# Altium schematic symbol library FQDMDSchematicLibrary.SchLib: 16 symbols (part 1 of 2)
Pins are listed as number, name and electrical type; pins without a type are passive.

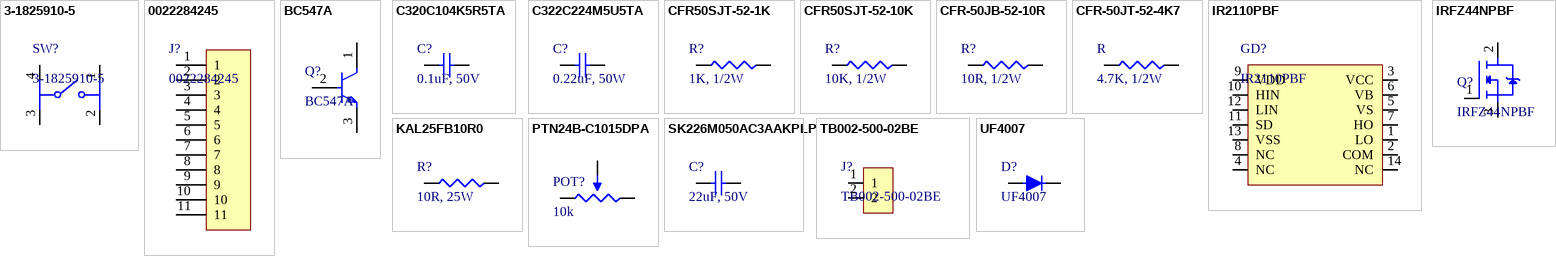
[diagram p0: symbols 3-1825910-5 to UF4007]

## 3-1825910-5
designator SW?
SWITCH TACTILE SPST-NO 0.05A 24V; Manufacturer: TE Connectivity; Manufacturer Lifecycle Status: ACTIVE; Actuator Length: 4.9mm; Actuator Material: Nylon, Polyamide; Contact Current Rating: 50mA; Contact Resistance: 100mΩ; Electrical Life: 100kcycles; Illumination Type: Illuminated, Non-Illuminated; Number of Positions: 1; Operating Force: 1.568N; Switch Function: Off-Mom; Switch Travel: 250µm; Throw Configuration: SPST; Supplier: DigiKey; Supplier Part Number: 450-1644-ND; Manufacturer Part Number: 3-1825910-5; RoHS: Compliant; Category: Pushbutton Switches; Stock: 31248; Pricing: 1=0.16, 10=0.144, 25=0.1348, 100=0.1213, 250=0.1126, 750=0.10273, 1500=0.09697, 3000=0.09163, 5250=0.08765 (USD); China RoHS: Compliant; Color: Black; Contact Material: Silver; Contact Plating: Silver; Current Rating: 50mA; Export Control Classification Number (ECCN) Code: EAR99; ELV: Compliant; Height: 3.61mm; Housing Material: Nylon; Harmonized Tariff Schedule (HTS) Code: 8536.50.90.40; Introduction Date: 2008-01-30; Lead Free: Lead Free; Length: 5.99mm; Lifecycle Status: Production; Max Current Rating: 50mA; Max Operating Temperature: 85°C; Max Voltage Rating (DC): 24V; Mechanical Life: 100kcycles; Min Operating Temperature: -35°C; Mounting Technology: PCB, Through Hole; Orientation: Straight; Packaging: Bulk; Radiation Hardening: No; REACH SVHC: Yes; Schedule B: 8536509065; Termination: Solder; Type: Switch; Voltage Rating (DC): 24V; ComponentLink1URL: https://sigma.octopart.com:443/101748000/technical_drawing/TE-Connectivity-3-1825910-5.pdf?src-supplier=Sager+Electronics; ComponentLink1Description: https://sigma.octopart.com:443/101748000/technical_drawing/TE-Connectivity-3-1825910-5.pdf?src-supplier=Sager+Electronics; ComponentLink2URL: https://datasheet.octopart.com:443/3-1825910-5-TE-Connectivity-datasheet-10294628.pdf?src-supplier=TE+Connectivity; ComponentLink2Description: https://datasheet.octopart.com:443/3-1825910-5-TE-Connectivity-datasheet-10294628.pdf?src-supplier=TE+Connectivity; ComponentLink3URL: https://datasheet.octopart.com:443/3-1825910-5-TE-Connectivity-datasheet-58177301.pdf?src-supplier=TE+Connectivity; ComponentLink3Description: https://datasheet.octopart.com:443/3-1825910-5-TE-Connectivity-datasheet-58177301.pdf?src-supplier=TE+Connectivity; ComponentLink4URL: https://sigma.octopart.com:443/12291753/technical_drawing/TE-Connectivity-3-1825910-5.pdf?src-supplier=Burklin+Elektronik; ComponentLink4Description: https://sigma.octopart.com:443/12291753/technical_drawing/TE-Connectivity-3-1825910-5.pdf?src-supplier=Burklin+Elektronik; ComponentLink5URL: https://datasheet.octopart.com:443/3-1825910-5-TE-Connectivity-datasheet-33009270.pdf?src-supplier=Newark; ComponentLink5Description: https://datasheet.octopart.com:443/3-1825910-5-TE-Connectivity-datasheet-33009270.pdf?src-supplier=Newark; ComponentLink6URL: https://datasheet.octopart.com:443/3-1825910-5-Tyco-Electronics-datasheet-10028384.pdf?src-supplier=Newark; ComponentLink6Description: https://datasheet.octopart.com:443/3-1825910-5-Tyco-Electronics-datasheet-10028384.pdf?src-supplier=Newark; ComponentLink7URL: https://datasheet.octopart.com:443/FSM18JH-Alcoswitch-datasheet-160371.pdf?src-supplier=Master+Electronics; ComponentLink7Description: https://datasheet.octopart.com:443/FSM18JH-Alcoswitch-datasheet-160371.pdf?src-supplier=Master+Electronics; ComponentLink8URL: https://datasheet.octopart.com:443/3-1825910-5-TE-Connectivity---AMP-datasheet-189108451.pdf?src-supplier=Master+Electronics; ComponentLink8Description: https://datasheet.octopart.com:443/3-1825910-5-TE-Connectivity---AMP-datasheet-189108451.pdf?src-supplier=Master+Electronics; ComponentLink9URL: https://datasheet.octopart.com:443/3-1825910-5-TE-Connectivity-datasheet-145421083.pdf?src-supplier=RS+(Formerly+Allied+Electronics); ComponentLink9Description: https://datasheet.octopart.com:443/3-1825910-5-TE-Connectivity-datasheet-145421083.pdf?src-supplier=RS+(Formerly+Allied+Electronics); ComponentLink10URL: https://datasheet.octopart.com:443/FSM18JH-TE-Connectivity-datasheet-512274.pdf?src-supplier=RS+(Formerly+Allied+Electronics); ComponentLink10Description: https://datasheet.octopart.com:443/FSM18JH-TE-Connectivity-datasheet-512274.pdf?src-supplier=RS+(Formerly+Allied+Electronics); ComponentLink11URL: https://datasheet.octopart.com:443/3-1825910-5-TE-Connectivity-datasheet-165583917.pdf?src-supplier=TME; ComponentLink11Description: https://datasheet.octopart.com:443/3-1825910-5-TE-Connectivity-datasheet-165583917.pdf?src-supplier=TME; ComponentLink12URL: https://datasheet.octopart.com:443/3-1825910-5-TE-Connectivity---AMP-datasheet-27860381.pdf?src-supplier=Electro+Sonic; ComponentLink12Description: https://datasheet.octopart.com:443/3-1825910-5-TE-Connectivity---AMP-datasheet-27860381.pdf?src-supplier=Electro+Sonic; ComponentLink13URL: https://datasheet.octopart.com:443/3-1825910-5-Tyco-Electronics-datasheet-11788987.pdf?src-supplier=Arrow+Electronics; ComponentLink13Description: https://datasheet.octopart.com:443/3-1825910-5-Tyco-Electronics-datasheet-11788987.pdf?src-supplier=Arrow+Electronics; ComponentLink14URL: http://sigma.octopart.com:80/14574724/rohs_statement/TE-Connectivity-3-1825910-5.pdf?src-supplier=Compliance+Statements; ComponentLink14Description: http://sigma.octopart.com:80/14574724/rohs_statement/TE-Connectivity-3-1825910-5.pdf?src-supplier=Compliance+Statements
footprint Pushbutton
pins: 1, 2, 3, 4

## 0022284245
designator J?
CONN HEADER VERT 24POS 2.54MM; Manufacturer: Molex; Manufacturer Lifecycle Status: ACTIVE; Contact Resistance: 20mΩ; Current Rating: 4A; Gender: Male; Insulation Resistance: 50GΩ; Number of Circuits: 24; Plating: Tin; Plating Thickness: 381nm; Ratings: CSA; Supplier: DigiKey; Supplier Part Number: 900-0022284245-ND; Manufacturer Part Number: 22-28-4245; RoHS: Compliant; Category: Headers and Wire Housings; Stock: 623; Pricing: 1=3.81, 10=3.237, 100=2.7512, 500=2.45582, 1000=2.33866 (USD); China RoHS: Compliant; Color: Black; Contact Material: Brass; Contact Plating: Gold; Country of Origin: US; Export Control Classification Number (ECCN) Code: EAR99; Housing Color: Black; Harmonized Tariff Schedule (HTS) Code: 8536.69.40.40; Introduction Date: 1994-12-01; Lead Free: Lead Free; Lifecycle Status: Production; Max Operating Temperature: 75°C; Min Operating Temperature: -40°C; Mounting Technology: Through Hole; Number of Contacts: 24; Pins: 24; Number of Positions: 24; Number of Rows: 1; Orientation: Vertical; Packaging: Bulk; Pitch: 2.54mm; REACH SVHC: Yes; Schedule B: 8536694040, 8536694040|8536694040|8536694040|8536694040|8536694040; Terminal Pitch: 2.54mm; Termination: Solder; ComponentLink1URL: https://datasheet.octopart.com:443/22-28-4245-Molex-datasheet-166051265.pdf?src-supplier=IHS; ComponentLink1Description: https://datasheet.octopart.com:443/22-28-4245-Molex-datasheet-166051265.pdf?src-supplier=IHS; ComponentLink2URL: https://datasheet.octopart.com:443/022284245-Molex-datasheet-8337137.pdf?src-supplier=Arrow+Electronics; ComponentLink2Description: https://datasheet.octopart.com:443/022284245-Molex-datasheet-8337137.pdf?src-supplier=Arrow+Electronics; ComponentLink3URL: https://datasheet.octopart.com:443/22-28-4245-Molex-datasheet-16300812.pdf?src-supplier=Molex; ComponentLink3Description: https://datasheet.octopart.com:443/22-28-4245-Molex-datasheet-16300812.pdf?src-supplier=Molex; ComponentLink4URL: https://sigma.octopart.com:443/16300370/technical_drawing/Molex-22-28-4245.pdf?src-supplier=Molex; ComponentLink4Description: https://sigma.octopart.com:443/16300370/technical_drawing/Molex-22-28-4245.pdf?src-supplier=Molex; ComponentLink5URL: https://datasheet.octopart.com:443/22-28-4245-Molex-datasheet-4210.pdf?src-supplier=DigiKey; ComponentLink5Description: https://datasheet.octopart.com:443/22-28-4245-Molex-datasheet-4210.pdf?src-supplier=DigiKey; ComponentLink6URL: http://sigma.octopart.com:80/16300813/rohs_statement/Molex-22-28-4245.pdf?src-supplier=Compliance+Statements; ComponentLink6Description: http://sigma.octopart.com:80/16300813/rohs_statement/Molex-22-28-4245.pdf?src-supplier=Compliance+Statements; ComponentLink7URL: http://sigma.octopart.com:80/reach_statement/Molex-company-74.pdf?src-supplier=Compliance+Statements; ComponentLink7Description: http://sigma.octopart.com:80/reach_statement/Molex-company-74.pdf?src-supplier=Compliance+Statements; ComponentLink8URL: http://sigma.octopart.com:80/rohs_statement/Molex-company-73.pdf?src-supplier=Compliance+Statements; ComponentLink8Description: http://sigma.octopart.com:80/rohs_statement/Molex-company-73.pdf?src-supplier=Compliance+Statements; ComponentLink9URL: http://sigma.octopart.com:80/conflict_mineral_statement/Molex-company-72.pdf?src-supplier=Compliance+Statements; ComponentLink9Description: http://sigma.octopart.com:80/conflict_mineral_statement/Molex-company-72.pdf?src-supplier=Compliance+Statements
footprint Conneting_Jumpers
pins: 1, 2, 3, 4, 5, 6, 7, 8, 9, 10, 11

## BC547A
designator Q?
TRANS NPN 45V 0.1A TO-92; Manufacturer: Diotec; Manufacturer Lifecycle Status: ACTIVE; Collector Emitter Saturation Voltage: 600mV; hFE Min: 110; Max Collector Current: 100mA; Max Power Dissipation: 500mW; Number of Channels: 1; Transition Frequency: 300MHz; Supplier: DigiKey; Supplier Part Number: 4878-BC547ATB-ND; Manufacturer Part Number: BC547A; RoHS: Compliant; Category: BJTs; Stock: 3793; Pricing: 4000=0.0267, 8000=0.02375, 12000=0.02224, 20000=0.02054, 28000=0.01954, 40000=0.01856 (USD); Case/Package: TO-92; Collector Emitter Voltage (VCEO): 45V; Country of Origin: Mainland China; Export Control Classification Number (ECCN) Code: EAR99; Harmonized Tariff Schedule (HTS) Code: 85412100; Introduction Date: 2002-03-22; Lifecycle Status: Production; Max Operating Temperature: 150°C; Mounting Technology: Through Hole; Number of Elements: 1; Number of Terminals: 3; Polarity: NPN; Power Dissipation: 500mW; REACH SVHC: Unknown; Weight: 336mg; ComponentLink1URL: https://datasheet.octopart.com:443/BC547A-Diotec-datasheet-166821072.pdf?src-supplier=IHS; ComponentLink1Description: https://datasheet.octopart.com:443/BC547A-Diotec-datasheet-166821072.pdf?src-supplier=IHS; ComponentLink2URL: https://datasheet.octopart.com:443/BC547A-Diotec-datasheet-17564947.pdf?src-supplier=Component+Distributors+Inc.; ComponentLink2Description: https://datasheet.octopart.com:443/BC547A-Diotec-datasheet-17564947.pdf?src-supplier=Component+Distributors+Inc.; ComponentLink3URL: https://datasheet.octopart.com:443/BC547A-Diotec-datasheet-113241320.pdf?src-supplier=TME; ComponentLink3Description: https://datasheet.octopart.com:443/BC547A-Diotec-datasheet-113241320.pdf?src-supplier=TME; ComponentLink4URL: https://datasheet.octopart.com:443/BC547A-Diotec-datasheet-188865637.pdf?src-supplier=TME; ComponentLink4Description: https://datasheet.octopart.com:443/BC547A-Diotec-datasheet-188865637.pdf?src-supplier=TME
footprint TRANS_BC547A
pins: 1 C, 2 B, 3 E

## C320C104K5R5TA
designator C?, comment 0.1uF, 50V
CAP CER 0.1UF 50V X7R RADIAL; Manufacturer: Yageo Group; Manufacturer Part Number: C320C104K5R5TA; Value: 100nF; Dielectric Material: Ceramic; Dissipation Factor: 2.5%; Dropout Voltage: 260mV; Lead/Base Style: Straight; Lead Diameter: 510µm; Lead Length: 7mm; Min Input Voltage: 8V; Output Current: 150mA; Output Voltage: 5V; Tolerance: 10%; Supplier: DigiKey; Supplier Part Number: 399-4264-ND; RoHS: Compliant; Category: Ceramic Capacitors; Stock: 174098; Pricing: 1=0.32, 10=0.186, 50=0.1356, 100=0.1202, 500=0.09408, 1000=0.08603, 2500=0.07755, 5000=0.07244 (USD); Case/Package: SOT-23-5; China RoHS: Compliant; Composition: Ceramic; Depth: 3.18mm; Dielectric: X7R; Export Control Classification Number (ECCN) Code: EAR99; Height: 5.84mm; Height - Seated (Max): 6.604mm; Harmonized Tariff Schedule (HTS) Code: 8532.24.00.60; Introduction Date: 2006-07-12; Lead Free: Lead Free; Lead Pitch: 2.54mm; Length: 5.08mm; Lifecycle Status: Production; Max Operating Temperature: 125°C; Min Operating Temperature: -55°C; Mounting Technology: Surface Mount; Pins: 2; Number of Terminals: 2; Packaging: Bulk; Radiation Hardening: No; REACH SVHC: Yes; Schedule B: 8532240060, 8532240060|8532240060, 8532240060|8532240060|8532240060, 8532240060|8532240060|8532240060|8532240060; Terminal Pitch: 2.54mm; Termination: Radial; Voltage: 50V; Voltage Rating: 50V; Voltage Rating (DC): 50V; Width: 3.18mm; ComponentLink1URL: https://datasheet.octopart.com:443/C320C104K5R5TA-KEMET-datasheet-182049030.pdf?src-supplier=IHS; ComponentLink1Description: https://datasheet.octopart.com:443/C320C104K5R5TA-KEMET-datasheet-182049030.pdf?src-supplier=IHS; ComponentLink2URL: https://datasheet.octopart.com:443/C320C104K5R5TA-KEMET-datasheet-101577198.pdf?src-supplier=Farnell; ComponentLink2Description: https://datasheet.octopart.com:443/C320C104K5R5TA-KEMET-datasheet-101577198.pdf?src-supplier=Farnell; ComponentLink3URL: https://datasheet.octopart.com:443/C320C104K5R5TA-KEMET-datasheet-82557385.pdf?src-supplier=Farnell; ComponentLink3Description: https://datasheet.octopart.com:443/C320C104K5R5TA-KEMET-datasheet-82557385.pdf?src-supplier=Farnell; ComponentLink4URL: https://datasheet.octopart.com:443/C320C104K5R5TA-Kemet-datasheet-120818.pdf?src-supplier=Farnell; ComponentLink4Description: https://datasheet.octopart.com:443/C320C104K5R5TA-Kemet-datasheet-120818.pdf?src-supplier=Farnell; ComponentLink5URL: https://datasheet.octopart.com:443/C320C104K5R5TA-KEMET-datasheet-181962010.pdf?src-supplier=Farnell; ComponentLink5Description: https://datasheet.octopart.com:443/C320C104K5R5TA-KEMET-datasheet-181962010.pdf?src-supplier=Farnell; ComponentLink6URL: https://datasheet.octopart.com:443/C320C104K5R5TA-KEMET-datasheet-74832429.pdf?src-supplier=Farnell; ComponentLink6Description: https://datasheet.octopart.com:443/C320C104K5R5TA-KEMET-datasheet-74832429.pdf?src-supplier=Farnell; ComponentLink7URL: https://datasheet.octopart.com:443/C320C104K5R5TA-Kemet-datasheet-66414062.pdf?src-supplier=element14+APAC; ComponentLink7Description: https://datasheet.octopart.com:443/C320C104K5R5TA-Kemet-datasheet-66414062.pdf?src-supplier=element14+APAC; ComponentLink8URL: https://datasheet.octopart.com:443/C320C104K5R5TA-Kemet-datasheet-17277851.pdf?src-supplier=Newark; ComponentLink8Description: https://datasheet.octopart.com:443/C320C104K5R5TA-Kemet-datasheet-17277851.pdf?src-supplier=Newark; ComponentLink9URL: https://datasheet.octopart.com:443/C320C104K5R5TA-KEMET-datasheet-176142619.pdf?src-supplier=Newark; ComponentLink9Description: https://datasheet.octopart.com:443/C320C104K5R5TA-KEMET-datasheet-176142619.pdf?src-supplier=Newark; ComponentLink10URL: https://datasheet.octopart.com:443/C320C104K5R5TA-Kemet-datasheet-7601896.pdf?src-supplier=Newark; ComponentLink10Description: https://datasheet.octopart.com:443/C320C104K5R5TA-Kemet-datasheet-7601896.pdf?src-supplier=Newark; ComponentLink11URL: https://datasheet.octopart.com:443/C320C104K5R5TA-KEMET-datasheet-134136068.pdf?src-supplier=Electro+Sonic; ComponentLink11Description: https://datasheet.octopart.com:443/C320C104K5R5TA-KEMET-datasheet-134136068.pdf?src-supplier=Electro+Sonic; ComponentLink12URL: https://datasheet.octopart.com:443/C320C104K5R5TA-KEMET-datasheet-140078780.pdf?src-supplier=TME; ComponentLink12Description: https://datasheet.octopart.com:443/C320C104K5R5TA-KEMET-datasheet-140078780.pdf?src-supplier=TME; ComponentLink13URL: https://datasheet.octopart.com:443/C320C104K5R5TA-KEMET-datasheet-68332006.pdf?src-supplier=TME; ComponentLink13Description: https://datasheet.octopart.com:443/C320C104K5R5TA-KEMET-datasheet-68332006.pdf?src-supplier=TME; ComponentLink14URL: https://datasheet.octopart.com:443/C320C104K5R5TA-Kemet-datasheet-62346230.pdf?src-supplier=TME; ComponentLink14Description: https://datasheet.octopart.com:443/C320C104K5R5TA-Kemet-datasheet-62346230.pdf?src-supplier=TME; ComponentLink15URL: https://datasheet.octopart.com:443/C320C104K5R5TA-Kemet-datasheet-17577310.pdf?src-supplier=TME; ComponentLink15Description: https://datasheet.octopart.com:443/C320C104K5R5TA-Kemet-datasheet-17577310.pdf?src-supplier=TME; ComponentLink16URL: https://datasheet.octopart.com:443/C320C104K5R5TA-KEMET-datasheet-151955016.pdf?src-supplier=SOS+electronic; ComponentLink16Description: https://datasheet.octopart.com:443/C320C104K5R5TA-KEMET-datasheet-151955016.pdf?src-supplier=SOS+electronic; ComponentLink17URL: https://datasheet.octopart.com:443/C320C104K5R5TA-Kemet-datasheet-48843691.pdf?src-supplier=RS+(Formerly+Allied+Electronics); ComponentLink17Description: https://datasheet.octopart.com:443/C320C104K5R5TA-Kemet-datasheet-48843691.pdf?src-supplier=RS+(Formerly+Allied+Electronics); ComponentLink18URL: https://datasheet.octopart.com:443/C320C104K5R5TA-Kemet-datasheet-10533010.pdf?src-supplier=Jameco; ComponentLink18Description: https://datasheet.octopart.com:443/C320C104K5R5TA-Kemet-datasheet-10533010.pdf?src-supplier=Jameco
footprint Capacitor_Ceramic_TH
pins: 1, 2

## C322C224M5U5TA
designator C?, comment 0.22uF, 50W
CAP CER 0.22UF 50V Z5U RADIAL; Manufacturer: Yageo Group; Manufacturer Part Number: C322C224M5U5TA; Value: 220nF; Dielectric Material: Ceramic; Dissipation Factor: 4%; Lead/Base Style: Formed Leads; Lead Diameter: 510µm; Lead Length: 7mm; Tolerance: 20%; Supplier: DigiKey; Supplier Part Number: 399-4354-ND; RoHS: Compliant; Category: Ceramic Capacitors; Stock: 6246; Pricing: 1=0.46, 10=0.278, 50=0.2064, 100=0.1846, 500=0.14772, 1000=0.13634, 2500=0.12433, 5000=0.1171 (USD); Case/Package: Radial; China RoHS: Compliant; Depth: 3.18mm; Dielectric: Z5U; Export Control Classification Number (ECCN) Code: EAR99; Height: 6.6mm; Height - Seated (Max): 6.604mm; Harmonized Tariff Schedule (HTS) Code: 8532.24.00.60; Introduction Date: 2006-07-12; Lead Free: Lead Free; Lead Pitch: 5.08mm; Length: 5.08mm; Lifecycle Status: Production; Max Operating Temperature: 85°C; Min Operating Temperature: 10°C; Mounting Technology: PCB, Through Hole; Number of Terminals: 2; Packaging: Bulk; Radiation Hardening: No; REACH SVHC: Yes; Schedule B: 8532240060, 8532240060|8532240060|8532240060|8532240060|8532240060; Terminal Pitch: 5.08mm; Termination: Radial; Voltage: 50V; Voltage Rating: 50V; Voltage Rating (DC): 50V; Weight: 45.359237g; Width: 3.18mm; ComponentLink1URL: https://datasheet.octopart.com:443/C322C224M5U5TA-KEMET-datasheet-182049035.pdf?src-supplier=IHS; ComponentLink1Description: https://datasheet.octopart.com:443/C322C224M5U5TA-KEMET-datasheet-182049035.pdf?src-supplier=IHS; ComponentLink2URL: https://datasheet.octopart.com:443/C322C224M5U5TA-KEMET-datasheet-68331992.pdf?src-supplier=Farnell; ComponentLink2Description: https://datasheet.octopart.com:443/C322C224M5U5TA-KEMET-datasheet-68331992.pdf?src-supplier=Farnell; ComponentLink3URL: https://datasheet.octopart.com:443/C322C224M5U5TA-KEMET-datasheet-101577214.pdf?src-supplier=Farnell; ComponentLink3Description: https://datasheet.octopart.com:443/C322C224M5U5TA-KEMET-datasheet-101577214.pdf?src-supplier=Farnell; ComponentLink4URL: https://datasheet.octopart.com:443/C322C224M5U5TA-KEMET-datasheet-181962113.pdf?src-supplier=Farnell; ComponentLink4Description: https://datasheet.octopart.com:443/C322C224M5U5TA-KEMET-datasheet-181962113.pdf?src-supplier=Farnell; ComponentLink5URL: https://datasheet.octopart.com:443/C322C224M5U5TA-KEMET-datasheet-74832493.pdf?src-supplier=Farnell; ComponentLink5Description: https://datasheet.octopart.com:443/C322C224M5U5TA-KEMET-datasheet-74832493.pdf?src-supplier=Farnell; ComponentLink6URL: https://datasheet.octopart.com:443/C322C224M5U5TA-KEMET-datasheet-166950196.pdf?src-supplier=Newark; ComponentLink6Description: https://datasheet.octopart.com:443/C322C224M5U5TA-KEMET-datasheet-166950196.pdf?src-supplier=Newark; ComponentLink7URL: https://datasheet.octopart.com:443/C322C224M5U5TA-Kemet-datasheet-7601896.pdf?src-supplier=Newark; ComponentLink7Description: https://datasheet.octopart.com:443/C322C224M5U5TA-Kemet-datasheet-7601896.pdf?src-supplier=Newark; ComponentLink8URL: https://datasheet.octopart.com:443/C322C224M5U5TA-Kemet-datasheet-66414231.pdf?src-supplier=element14+APAC; ComponentLink8Description: https://datasheet.octopart.com:443/C322C224M5U5TA-Kemet-datasheet-66414231.pdf?src-supplier=element14+APAC; ComponentLink9URL: https://datasheet.octopart.com:443/C322C224M5U5TA-KEMET-datasheet-83995801.pdf?src-supplier=element14+APAC; ComponentLink9Description: https://datasheet.octopart.com:443/C322C224M5U5TA-KEMET-datasheet-83995801.pdf?src-supplier=element14+APAC; ComponentLink10URL: https://datasheet.octopart.com:443/C322C224M5U5TA-KEMET-datasheet-134136068.pdf?src-supplier=Electro+Sonic; ComponentLink10Description: https://datasheet.octopart.com:443/C322C224M5U5TA-KEMET-datasheet-134136068.pdf?src-supplier=Electro+Sonic; ComponentLink11URL: https://datasheet.octopart.com:443/C322C224M5U5TA-Kemet-datasheet-120818.pdf?src-supplier=RS+(Formerly+Allied+Electronics); ComponentLink11Description: https://datasheet.octopart.com:443/C322C224M5U5TA-Kemet-datasheet-120818.pdf?src-supplier=RS+(Formerly+Allied+Electronics); ComponentLink12URL: https://datasheet.octopart.com:443/C322C224M5U5TA-Kemet-datasheet-48843691.pdf?src-supplier=RS+(Formerly+Allied+Electronics); ComponentLink12Description: https://datasheet.octopart.com:443/C322C224M5U5TA-Kemet-datasheet-48843691.pdf?src-supplier=RS+(Formerly+Allied+Electronics); ComponentLink13URL: https://datasheet.octopart.com:443/C322C224M5U5TA-Kemet-datasheet-62346230.pdf?src-supplier=TME; ComponentLink13Description: https://datasheet.octopart.com:443/C322C224M5U5TA-Kemet-datasheet-62346230.pdf?src-supplier=TME; ComponentLink14URL: https://datasheet.octopart.com:443/C322C224M5U5TA-Kemet-datasheet-17577310.pdf?src-supplier=TME; ComponentLink14Description: https://datasheet.octopart.com:443/C322C224M5U5TA-Kemet-datasheet-17577310.pdf?src-supplier=TME
footprint Capacitor_Ceramic_TH
pins: 1, 2

## CFR50SJT-52-1K
designator R?, comment 1K, 1/2W
RES 1K OHM 5% 1/2W AXIAL; Manufacturer: Yageo Group; Manufacturer Part Number: CFR50SJT-52-1K; Lead Diameter: 550µm; Power Rating: 500mW; Value: 1kΩ; Working Voltage: 300V; Supplier: DigiKey; Supplier Part Number: 13-CFR50SJT-52-1KCT-ND; RoHS: Compliant; Category: Through-Hole Resistors; Stock: 8784; Pricing: 1=0.1, 10=0.048, 25=0.0404, 50=0.0352, 100=0.031, 250=0.02632, 500=0.02338, 1000=0.02089 (USD); China RoHS: Compliant; Composition: Carbon Film; Country of Origin: Mainland China, Taiwan; Diameter: 2.4mm; Export Control Classification Number (ECCN) Code: EAR99; Harmonized Tariff Schedule (HTS) Code: 8533.10.00.65; Introduction Date: 2007-10-26; Length: 6.3mm; Lifecycle Status: Production; Max Operating Temperature: 155°C; Min Operating Temperature: -55°C; Number of Terminals: 2; Ratings: AEC-Q200; REACH SVHC: Yes; Tolerance: 5%; ComponentLink1URL: https://datasheet.octopart.com:443/CFR50SJT-52-1K-Yageo-datasheet-175860721.pdf?src-supplier=IHS; ComponentLink1Description: https://datasheet.octopart.com:443/CFR50SJT-52-1K-Yageo-datasheet-175860721.pdf?src-supplier=IHS; ComponentLink2URL: https://datasheet.octopart.com:443/CFR50SJT-52-1K-Yageo-datasheet-155367611.pdf?src-supplier=Farnell; ComponentLink2Description: https://datasheet.octopart.com:443/CFR50SJT-52-1K-Yageo-datasheet-155367611.pdf?src-supplier=Farnell; ComponentLink3URL: https://datasheet.octopart.com:443/CFR50SJT-52-1K-Yageo-Group-datasheet-184398216.pdf?src-supplier=Future+Electronics; ComponentLink3Description: https://datasheet.octopart.com:443/CFR50SJT-52-1K-Yageo-Group-datasheet-184398216.pdf?src-supplier=Future+Electronics; ComponentLink4URL: https://datasheet.octopart.com:443/CFR50SJT-52-1K-Yageo-datasheet-137875058.pdf?src-supplier=Future+Electronics; ComponentLink4Description: https://datasheet.octopart.com:443/CFR50SJT-52-1K-Yageo-datasheet-137875058.pdf?src-supplier=Future+Electronics; ComponentLink5URL: https://datasheet.octopart.com:443/CFR50SJT-52-1K-Yageo-datasheet-28066625.pdf?src-supplier=Future+Electronics; ComponentLink5Description: https://datasheet.octopart.com:443/CFR50SJT-52-1K-Yageo-datasheet-28066625.pdf?src-supplier=Future+Electronics; ComponentLink6URL: http://sigma.octopart.com:80/conflict_mineral_statement/Yageo-company-3.pdf?src-supplier=Compliance+Statements; ComponentLink6Description: http://sigma.octopart.com:80/conflict_mineral_statement/Yageo-company-3.pdf?src-supplier=Compliance+Statements; ComponentLink7URL: http://sigma.octopart.com:80/rohs_statement/Yageo-company-2.pdf?src-supplier=Compliance+Statements; ComponentLink7Description: http://sigma.octopart.com:80/rohs_statement/Yageo-company-2.pdf?src-supplier=Compliance+Statements
footprint Resistor_TH
pins: 1, 2

## CFR50SJT-52-10K
designator R?, comment 10K, 1/2W
RES 10K OHM 5% 1/2W AXIAL; Manufacturer: Yageo Group; Manufacturer Part Number: CFR50SJT-52-10K; Lead Diameter: 550µm; Power Rating: 500mW; Value: 10kΩ; Working Voltage: 300V; Supplier: DigiKey; Supplier Part Number: 13-CFR50SJT-52-10KTB-ND; RoHS: Compliant; Category: Through-Hole Resistors; Stock: 16543; Pricing: 5000=0.01645, 10000=0.01499, 15000=0.01424, 25000=0.01339, 35000=0.01289, 50000=0.0124 (USD); China RoHS: Compliant; Composition: Carbon Film; Diameter: 2.4mm; Length: 6.3mm; Lifecycle Status: Production; Max Operating Temperature: 155°C; Min Operating Temperature: -55°C; Number of Terminals: 2; Ratings: AEC-Q200; REACH SVHC: Yes; Tolerance: 5%; ComponentLink1URL: https://datasheet.octopart.com:443/CFR50SJT-52-10K-Yageo-datasheet-175860721.pdf?src-supplier=Farnell; ComponentLink1Description: https://datasheet.octopart.com:443/CFR50SJT-52-10K-Yageo-datasheet-175860721.pdf?src-supplier=Farnell; ComponentLink2URL: https://datasheet.octopart.com:443/CFR50SJT-52-10K-Yageo-Group-datasheet-184398216.pdf?src-supplier=Future+Electronics; ComponentLink2Description: https://datasheet.octopart.com:443/CFR50SJT-52-10K-Yageo-Group-datasheet-184398216.pdf?src-supplier=Future+Electronics; ComponentLink3URL: https://datasheet.octopart.com:443/CFR50SJT-52-10K-Yageo-datasheet-165493773.pdf?src-supplier=Future+Electronics; ComponentLink3Description: https://datasheet.octopart.com:443/CFR50SJT-52-10K-Yageo-datasheet-165493773.pdf?src-supplier=Future+Electronics; ComponentLink4URL: https://datasheet.octopart.com:443/CFR50SJT-52-10K-Yageo-datasheet-155367611.pdf?src-supplier=Future+Electronics; ComponentLink4Description: https://datasheet.octopart.com:443/CFR50SJT-52-10K-Yageo-datasheet-155367611.pdf?src-supplier=Future+Electronics; ComponentLink5URL: https://datasheet.octopart.com:443/CFR50SJT-52-10K-Yageo-datasheet-137875058.pdf?src-supplier=Future+Electronics; ComponentLink5Description: https://datasheet.octopart.com:443/CFR50SJT-52-10K-Yageo-datasheet-137875058.pdf?src-supplier=Future+Electronics; ComponentLink6URL: http://sigma.octopart.com:80/conflict_mineral_statement/Yageo-company-3.pdf?src-supplier=Compliance+Statements; ComponentLink6Description: http://sigma.octopart.com:80/conflict_mineral_statement/Yageo-company-3.pdf?src-supplier=Compliance+Statements; ComponentLink7URL: http://sigma.octopart.com:80/rohs_statement/Yageo-company-2.pdf?src-supplier=Compliance+Statements; ComponentLink7Description: http://sigma.octopart.com:80/rohs_statement/Yageo-company-2.pdf?src-supplier=Compliance+Statements
footprint Resistor_TH
pins: 1, 2

## CFR-50JB-52-10R
designator R?, comment 10R, 1/2W
RES 10 OHM 5% 1/2W AXIAL; Manufacturer: Yageo Group; Manufacturer Part Number: CFR-50JB-52-10R; Lead Diameter: 550µm; Lead Length: 26mm; Max Power Dissipation: 500mW; Value: 10Ω; Temperature Coefficient: 500ppm/°C; Working Voltage: 350V; Supplier: DigiKey; Supplier Part Number: 13-CFR-50JB-52-10R-ND; RoHS: Compliant; Category: Through-Hole Resistors; Stock: 18511; Pricing: 1=0.1, 10=0.05, 25=0.0416, 50=0.0364, 100=0.032, 250=0.0272, 500=0.02418, 1000=0.02161, 5000=0.01702 (USD); Case/Package: Axial; China RoHS: Compliant; Composition: Carbon Film; Diameter: 3.3mm; Length: 9mm; Lifecycle Status: Production; Max Operating Temperature: 155°C; Min Operating Temperature: -55°C; Number of Terminals: 2; Number of Terminations: 2; Packaging: Bulk; Power Rating: 500mW; Ratings: AEC-Q200; REACH SVHC: Yes; Tolerance: 5%; ComponentLink1URL: https://datasheet.octopart.com:443/CFR-50JB-52-10R-Yageo-datasheet-175860721.pdf?src-supplier=Farnell; ComponentLink1Description: https://datasheet.octopart.com:443/CFR-50JB-52-10R-Yageo-datasheet-175860721.pdf?src-supplier=Farnell; ComponentLink2URL: https://datasheet.octopart.com:443/CFR-50JB-52-10R-Yageo-Group-datasheet-184398216.pdf?src-supplier=Future+Electronics; ComponentLink2Description: https://datasheet.octopart.com:443/CFR-50JB-52-10R-Yageo-Group-datasheet-184398216.pdf?src-supplier=Future+Electronics; ComponentLink3URL: https://datasheet.octopart.com:443/CFR-50JB-52-10R-Yageo-datasheet-165493773.pdf?src-supplier=Future+Electronics; ComponentLink3Description: https://datasheet.octopart.com:443/CFR-50JB-52-10R-Yageo-datasheet-165493773.pdf?src-supplier=Future+Electronics; ComponentLink4URL: https://datasheet.octopart.com:443/CFR-50JB-52-10R-Yageo-datasheet-155367611.pdf?src-supplier=Future+Electronics; ComponentLink4Description: https://datasheet.octopart.com:443/CFR-50JB-52-10R-Yageo-datasheet-155367611.pdf?src-supplier=Future+Electronics; ComponentLink5URL: https://datasheet.octopart.com:443/CFR-50JB-52-10R-Yageo-datasheet-137875058.pdf?src-supplier=Future+Electronics; ComponentLink5Description: https://datasheet.octopart.com:443/CFR-50JB-52-10R-Yageo-datasheet-137875058.pdf?src-supplier=Future+Electronics; ComponentLink6URL: http://sigma.octopart.com:80/conflict_mineral_statement/Yageo-company-3.pdf?src-supplier=Compliance+Statements; ComponentLink6Description: http://sigma.octopart.com:80/conflict_mineral_statement/Yageo-company-3.pdf?src-supplier=Compliance+Statements; ComponentLink7URL: http://sigma.octopart.com:80/rohs_statement/Yageo-company-2.pdf?src-supplier=Compliance+Statements; ComponentLink7Description: http://sigma.octopart.com:80/rohs_statement/Yageo-company-2.pdf?src-supplier=Compliance+Statements
footprint Resistor_TH
pins: 1, 2

## CFR-50JT-52-4K7
designator R, comment 4.7K, 1/2W
RES 4.7K OHM 5% 1/2W AXIAL; Manufacturer: Yageo Group; Manufacturer Part Number: CFR-50JT-52-4K7; Lead Diameter: 550µm; Power Rating: 500mW; Value: 4.7kΩ; Temperature Coefficient: 350ppm/°C; Working Voltage: 350V; Supplier: DigiKey; Supplier Part Number: 13-CFR-50JT-52-4K7CT-ND; RoHS: Compliant; Category: Through-Hole Resistors; Stock: 9950; Pricing: 1=0.1, 10=0.05, 25=0.0416, 50=0.0364, 100=0.032, 250=0.0272, 500=0.02418 (USD); Case/Package: Conformal; China RoHS: Compliant; Composition: Carbon Film; Contact Plating: Tin; Country of Origin: Mainland China, Taiwan; Diameter: 3.3mm; Export Control Classification Number (ECCN) Code: EAR99; Harmonized Tariff Schedule (HTS) Code: 8533.10.00.65; Introduction Date: 2007-10-26; Lead Free: Lead Free; Length: 9mm; Lifecycle Status: Production; Max Operating Temperature: 155°C; Military Standard: Not; Min Operating Temperature: -55°C; Mounting Technology: Through Hole; Number of Terminals: 2; Radiation Hardening: No; Ratings: AEC-Q200; REACH SVHC: Yes; Termination: Axial; Tolerance: 5%; ComponentLink1URL: https://datasheet.octopart.com:443/CFR-50JT-52-4K7-Yageo-datasheet-175860721.pdf?src-supplier=Newark; ComponentLink1Description: https://datasheet.octopart.com:443/CFR-50JT-52-4K7-Yageo-datasheet-175860721.pdf?src-supplier=Newark; ComponentLink2URL: https://datasheet.octopart.com:443/CFR-50JT-52-4K7-Yageo-datasheet-12509909.pdf?src-supplier=_legacy+Avnet; ComponentLink2Description: https://datasheet.octopart.com:443/CFR-50JT-52-4K7-Yageo-datasheet-12509909.pdf?src-supplier=_legacy+Avnet; ComponentLink3URL: https://datasheet.octopart.com:443/CFR-50JT-52-4K7-Yageo-Group-datasheet-184398216.pdf?src-supplier=Future+Electronics; ComponentLink3Description: https://datasheet.octopart.com:443/CFR-50JT-52-4K7-Yageo-Group-datasheet-184398216.pdf?src-supplier=Future+Electronics; ComponentLink4URL: https://datasheet.octopart.com:443/CFR-50JT-52-4K7-Yageo-datasheet-165493773.pdf?src-supplier=Future+Electronics; ComponentLink4Description: https://datasheet.octopart.com:443/CFR-50JT-52-4K7-Yageo-datasheet-165493773.pdf?src-supplier=Future+Electronics; ComponentLink5URL: https://datasheet.octopart.com:443/CFR-50JT-52-4K7-Yageo-datasheet-155367611.pdf?src-supplier=Future+Electronics; ComponentLink5Description: https://datasheet.octopart.com:443/CFR-50JT-52-4K7-Yageo-datasheet-155367611.pdf?src-supplier=Future+Electronics; ComponentLink6URL: https://datasheet.octopart.com:443/CFR-50JT-52-4K7-Yageo-datasheet-137875058.pdf?src-supplier=Future+Electronics; ComponentLink6Description: https://datasheet.octopart.com:443/CFR-50JT-52-4K7-Yageo-datasheet-137875058.pdf?src-supplier=Future+Electronics; ComponentLink7URL: https://datasheet.octopart.com:443/CFR-50JT-52-4K7-Yageo-datasheet-28066625.pdf?src-supplier=Future+Electronics; ComponentLink7Description: https://datasheet.octopart.com:443/CFR-50JT-52-4K7-Yageo-datasheet-28066625.pdf?src-supplier=Future+Electronics; ComponentLink8URL: https://datasheet.octopart.com:443/CFR-50JT-52-4K7-Yageo-datasheet-17276704.pdf?src-supplier=Future+Electronics; ComponentLink8Description: https://datasheet.octopart.com:443/CFR-50JT-52-4K7-Yageo-datasheet-17276704.pdf?src-supplier=Future+Electronics; ComponentLink9URL: http://sigma.octopart.com:80/conflict_mineral_statement/Yageo-company-3.pdf?src-supplier=Compliance+Statements; ComponentLink9Description: http://sigma.octopart.com:80/conflict_mineral_statement/Yageo-company-3.pdf?src-supplier=Compliance+Statements; ComponentLink10URL: http://sigma.octopart.com:80/rohs_statement/Yageo-company-2.pdf?src-supplier=Compliance+Statements; ComponentLink10Description: http://sigma.octopart.com:80/rohs_statement/Yageo-company-2.pdf?src-supplier=Compliance+Statements
footprint Resistor_TH
pins: 1, 2

## IR2110PBF
designator GD?
IC GATE DRVR HALF-BRIDGE 14DIP; Manufacturer: Infineon; Channel Type: Independent; Fall Time: 25ns; Max Output current: 2.5A; Max Output Voltage: 20V; Max Power Dissipation: 1.6W; Max Supply Current: 340µA; Min Output Voltage: 10V; Min Supply Voltage: 3V; Nominal Supply Voltage (DC): 15V; Number of Channels: 2; Number of Circuits: 1; Propagation Delay: 150ns; Rise Time: 35ns; Turn-Off Delay Time: 10ns; Supplier: DigiKey; Supplier Part Number: IR2110PBF-ND; Manufacturer Part Number: IR2110PBF; RoHS: Compliant; Category: Gate Drivers; Stock: 3019; Pricing: 1=5.22, 10=3.949, 25=3.6308, 100=3.2815, 250=3.11496, 500=3.01456, 1000=2.9319, 2500=2.84466 (USD); Case/Package: DIP; Country of Origin: USA; Export Control Classification Number (ECCN) Code: EAR99; Height: 4.9276mm; Height - Seated (Max): 5.33mm; Harmonized Tariff Schedule (HTS) Code: 8542.39.00.01; Introduction Date: 1990-01-01; Lead Free: Contains Lead, Lead Free; Length: 19.305mm; Lifecycle Status: NRND; Max Operating Temperature: 125°C; Max Supply Voltage: 20V; Min Operating Temperature: -40°C; Mounting Technology: Through Hole; Number of Drivers: 2; Number of Outputs: 2; Pins: 14; Number of Terminals: 14; Operating Supply Current: 340µA; Operating Supply Voltage: 15V; Output Current: 2.5A; Output Voltage: 20V; Package Quantity: 1500; Power Dissipation: 1.6W; Radiation Hardening: No; REACH SVHC: Yes; Schedule B: 8542310000, 8542310000|8542310000|8542310000|8542310000|8542310000; Temperature Grade: Automotive; Terminal Pitch: 2.54mm; Termination: Through Hole; Turn-On Delay Time: 10ns; Type: Integrated Circuit (IC); Weight: 1.620005g; Width: 7.62mm; ComponentLink1URL: https://datasheet.octopart.com:443/IR2110PBF-Infineon-datasheet-141402711.pdf?src-supplier=IHS; ComponentLink1Description: https://datasheet.octopart.com:443/IR2110PBF-Infineon-datasheet-141402711.pdf?src-supplier=IHS; ComponentLink2URL: https://datasheet.octopart.com:443/IR2110PBF-International-Rectifier-datasheet-180119011.pdf?src-supplier=IHS; ComponentLink2Description: https://datasheet.octopart.com:443/IR2110PBF-International-Rectifier-datasheet-180119011.pdf?src-supplier=IHS; ComponentLink3URL: https://datasheet.octopart.com:443/IR2110PBF-Infineon-datasheet-3193.pdf?src-supplier=SHENGYU+ELECTRONICS; ComponentLink3Description: https://datasheet.octopart.com:443/IR2110PBF-Infineon-datasheet-3193.pdf?src-supplier=SHENGYU+ELECTRONICS; ComponentLink4URL: https://datasheet.octopart.com:443/IR2110PBF-International-Rectifier-datasheet-8380958.pdf?src-supplier=Jameco; ComponentLink4Description: https://datasheet.octopart.com:443/IR2110PBF-International-Rectifier-datasheet-8380958.pdf?src-supplier=Jameco; ComponentLink5URL: https://datasheet.octopart.com:443/IR2110-International-Rectifier-datasheet-82168.pdf?src-supplier=RS+(Formerly+Allied+Electronics); ComponentLink5Description: https://datasheet.octopart.com:443/IR2110-International-Rectifier-datasheet-82168.pdf?src-supplier=RS+(Formerly+Allied+Electronics); ComponentLink6URL: https://datasheet.octopart.com:443/IR2110PBF-International-Rectifier-datasheet-14156666.pdf?src-supplier=iiiC; ComponentLink6Description: https://datasheet.octopart.com:443/IR2110PBF-International-Rectifier-datasheet-14156666.pdf?src-supplier=iiiC; ComponentLink7URL: https://datasheet.octopart.com:443/IR2110PBF-International-Rectifier-datasheet-521366.pdf?src-supplier=Farnell; ComponentLink7Description: https://datasheet.octopart.com:443/IR2110PBF-International-Rectifier-datasheet-521366.pdf?src-supplier=Farnell; ComponentLink8URL: https://datasheet.octopart.com:443/IR2110-International-Rectifier-datasheet-101786.pdf?src-supplier=B%2bD+Enterprises; ComponentLink8Description: https://datasheet.octopart.com:443/IR2110-International-Rectifier-datasheet-101786.pdf?src-supplier=B%2bD+Enterprises; ComponentLink9URL: http://sigma.octopart.com:80/conflict_mineral_statement/Infineon-company-51.pdf?src-supplier=Compliance+Statements; ComponentLink9Description: http://sigma.octopart.com:80/conflict_mineral_statement/Infineon-company-51.pdf?src-supplier=Compliance+Statements; ComponentLink10URL: http://sigma.octopart.com:80/reach_statement/International-Rectifier-company-55.pdf?src-supplier=Compliance+Statements; ComponentLink10Description: http://sigma.octopart.com:80/reach_statement/International-Rectifier-company-55.pdf?src-supplier=Compliance+Statements; ComponentLink11URL: http://sigma.octopart.com:80/rohs_statement/International-Rectifier-company-54.pdf?src-supplier=Compliance+Statements; ComponentLink11Description: http://sigma.octopart.com:80/rohs_statement/International-Rectifier-company-54.pdf?src-supplier=Compliance+Statements
footprint IR2110PBF_DIP14 (IC GATE DRVR HALF-BRIDGE 14DIP)
pins: 1 LO, 2 COM, 3 VCC, 4 NC, 5 VS, 6 VB, 7 HO, 8 NC, 9 VDD, 10 HIN, 11 SD, 12 LIN, 13 VSS, 14 NC

## IRFZ44NPBF
designator Q?
MOSFET N-CH 55V 49A TO220AB; Manufacturer: Infineon; Drain to Source Resistance: 17.5mΩ; Element Configuration: Single; Fall Time: 45ns; Gate to Source Voltage (Vgs): 20V; Input Capacitance: 1.47nF; Max Junction Temperature (Tj): 175°C; Max Power Dissipation: 94W; Nominal Vgs: 2.1V; Number of Elements: 1; Power Dissipation: 83W; Recovery Time: 95ns; Value: 17.5MΩ; Rise Time: 60ns; Turn-Off Delay Time: 44ns; Turn-On Delay Time: 12ns; Supplier: DigiKey; Supplier Part Number: IRFZ44NPBF-ND; Manufacturer Part Number: IRFZ44NPBF; RoHS: Compliant; Category: MOSFETs; Stock: 18868; Pricing: 1=1.81, 50=0.8528, 100=0.759, 500=0.59426, 1000=0.54123, 2000=0.49662, 5000=0.44834, 10000=0.41852 (USD); Case/Package: TO-220AB; Contact Plating: Tin; Continuous Drain Current (ID): 49A; Country of Origin: Mainland China, Mexico; Current Rating: 49A; Drain to Source Breakdown Voltage: 55V; Drain to Source Voltage (Vdss): 55V; Dual Supply Voltage: 55V; Export Control Classification Number (ECCN) Code: EAR99; Height: 8.77mm; Harmonized Tariff Schedule (HTS) Code: 8541.29.00.95; Introduction Date: 2003-10-31; Lead Free: Lead Free; Lead Pitch: 2.54mm; Length: 10.668mm; Lifecycle Status: Production; Max Operating Temperature: 175°C; Min Breakdown Voltage: 55V; Min Operating Temperature: -55°C; Mounting Technology: Through Hole; Pins: 3; Number of Terminals: 3; On-State Resistance: 17.5mΩ; Package Quantity: 1000; Packaging: Bulk; Radiation Hardening: No; Rds On Max: 17.5mΩ; REACH SVHC: Yes; Schedule B: 8541290080, 8541290080|8541290080, 8541290080|8541290080|8541290080, 8541290080|8541290080|8541290080|8541290080; Termination: Through Hole; Threshold Voltage: 2.1V; Voltage Rating (DC): 55V; Width: 4.826mm; ComponentLink1URL: https://datasheet.octopart.com:443/IRFZ44NPBF-Infineon-datasheet-10898344.pdf?src-supplier=IHS; ComponentLink1Description: https://datasheet.octopart.com:443/IRFZ44NPBF-Infineon-datasheet-10898344.pdf?src-supplier=IHS; ComponentLink2URL: https://datasheet.octopart.com:443/IRFZ44NPBF-Infineon-datasheet-180070255.pdf?src-supplier=IHS; ComponentLink2Description: https://datasheet.octopart.com:443/IRFZ44NPBF-Infineon-datasheet-180070255.pdf?src-supplier=IHS; ComponentLink3URL: https://datasheet.octopart.com:443/IRFZ44NPBF-Infineon-datasheet-163297.pdf?src-supplier=Farnell; ComponentLink3Description: https://datasheet.octopart.com:443/IRFZ44NPBF-Infineon-datasheet-163297.pdf?src-supplier=Farnell; ComponentLink4URL: https://datasheet.octopart.com/IRFZ44NPBF-Infineon-datasheet-7575919.pdf; ComponentLink4Description: https://datasheet.octopart.com/IRFZ44NPBF-Infineon-datasheet-7575919.pdf; ComponentLink5URL: https://datasheet.octopart.com:443/IRFZ44N-International-Rectifier-datasheet-82086.pdf?src-supplier=Newark; ComponentLink5Description: https://datasheet.octopart.com:443/IRFZ44N-International-Rectifier-datasheet-82086.pdf?src-supplier=Newark; ComponentLink6URL: https://datasheet.octopart.com:443/IRFZ44NPBF-International-Rectifier-datasheet-7564879.pdf?src-supplier=_legacy+Avnet; ComponentLink6Description: https://datasheet.octopart.com:443/IRFZ44NPBF-International-Rectifier-datasheet-7564879.pdf?src-supplier=_legacy+Avnet; ComponentLink7URL: https://datasheet.octopart.com:443/IRFZ44NPBF-International-Rectifier-datasheet-14061588.pdf?src-supplier=iiiC; ComponentLink7Description: https://datasheet.octopart.com:443/IRFZ44NPBF-International-Rectifier-datasheet-14061588.pdf?src-supplier=iiiC; ComponentLink8URL: https://datasheet.octopart.com:443/IRFZ44N-International-Rectifier-datasheet-10733621.pdf?src-supplier=iiiC; ComponentLink8Description: https://datasheet.octopart.com:443/IRFZ44N-International-Rectifier-datasheet-10733621.pdf?src-supplier=iiiC; ComponentLink9URL: https://datasheet.octopart.com:443/IRFZ44NPBF-Infineon-datasheet-9874387.pdf?src-supplier=RS+(Formerly+Allied+Electronics); ComponentLink9Description: https://datasheet.octopart.com:443/IRFZ44NPBF-Infineon-datasheet-9874387.pdf?src-supplier=RS+(Formerly+Allied+Electronics); ComponentLink10URL: https://datasheet.octopart.com:443/IRFZ44N-International-Rectifier-datasheet-58767.pdf?src-supplier=RS+(Formerly+Allied+Electronics); ComponentLink10Description: https://datasheet.octopart.com:443/IRFZ44N-International-Rectifier-datasheet-58767.pdf?src-supplier=RS+(Formerly+Allied+Electronics); ComponentLink11URL: https://datasheet.octopart.com:443/IRFZ44NPBF-Infineon-datasheet-7280676.pdf?src-supplier=Jameco; ComponentLink11Description: https://datasheet.octopart.com:443/IRFZ44NPBF-Infineon-datasheet-7280676.pdf?src-supplier=Jameco; ComponentLink12URL: https://datasheet.octopart.com:443/IRFZ44NPBF-International-Rectifier-datasheet-92204.pdf?src-supplier=DigiKey; ComponentLink12Description: https://datasheet.octopart.com:443/IRFZ44NPBF-International-Rectifier-datasheet-92204.pdf?src-supplier=DigiKey; ComponentLink13URL: http://sigma.octopart.com:80/conflict_mineral_statement/Infineon-company-51.pdf?src-supplier=Compliance+Statements; ComponentLink13Description: http://sigma.octopart.com:80/conflict_mineral_statement/Infineon-company-51.pdf?src-supplier=Compliance+Statements; ComponentLink14URL: http://sigma.octopart.com:80/reach_statement/International-Rectifier-company-55.pdf?src-supplier=Compliance+Statements; ComponentLink14Description: http://sigma.octopart.com:80/reach_statement/International-Rectifier-company-55.pdf?src-supplier=Compliance+Statements; ComponentLink15URL: http://sigma.octopart.com:80/rohs_statement/International-Rectifier-company-54.pdf?src-supplier=Compliance+Statements; ComponentLink15Description: http://sigma.octopart.com:80/rohs_statement/International-Rectifier-company-54.pdf?src-supplier=Compliance+Statements
footprint IRFZ44NPBF
pins: 1 G, 2 D, 3 S

## KAL25FB10R0
designator R?, comment 10R, 25W
RES CHAS MNT 10 OHM 1% 25W; Manufacturer: Stackpole Electronics; Manufacturer Part Number: KAL25FB10R0; Lead/Base Style: Solder; Value: 10Ω; Temperature Coefficient: 30ppm/°C; Supplier: DigiKey; Supplier Part Number: KAL25FB10R0-ND; RoHS: Compliant; Category: Chassis Mount Resistors; Stock: 500; Pricing: 1=5.22, 10=3.546, 25=3.092, 50=2.8076, 100=2.5658, 250=2.30096, 500=2.1353, 1000=1.99459, 5000=1.75 (USD); Composition: Wirewound; Features: Moisture Resistant; Height: 13.87mm; Housing Material: Aluminium; Length: 26.97mm; Lifecycle Status: Production; Max Operating Temperature: 275°C; Max Power Dissipation: 25W; Min Operating Temperature: -55°C; Mounting Technology: Chassis Mount; Number of Terminals: 2; Packaging: Bulk; Power Rating: 25W; Radiation Hardening: No; REACH SVHC: Yes; Tolerance: 1%; Width: 27.43mm; ComponentLink1URL: https://datasheet.octopart.com:443/KAL25FB10R0-Stackpole-Electronics-datasheet-170576574.pdf?src-supplier=IHS; ComponentLink1Description: https://datasheet.octopart.com:443/KAL25FB10R0-Stackpole-Electronics-datasheet-170576574.pdf?src-supplier=IHS; ComponentLink2URL: https://datasheet.octopart.com:443/KAL25FB10R0-Stackpole-Electronics-datasheet-137738308.pdf?src-supplier=Master+Electronics; ComponentLink2Description: https://datasheet.octopart.com:443/KAL25FB10R0-Stackpole-Electronics-datasheet-137738308.pdf?src-supplier=Master+Electronics; ComponentLink3URL: https://datasheet.octopart.com:443/KAL25FB10R0-Stackpole-Electronics-datasheet-163747744.pdf?src-supplier=Master+Electronics; ComponentLink3Description: https://datasheet.octopart.com:443/KAL25FB10R0-Stackpole-Electronics-datasheet-163747744.pdf?src-supplier=Master+Electronics; ComponentLink4URL: https://datasheet.octopart.com:443/KAL25FB10R0-Stackpole-Electronics-datasheet-32593518.pdf?src-supplier=Stackpole+Electronics; ComponentLink4Description: https://datasheet.octopart.com:443/KAL25FB10R0-Stackpole-Electronics-datasheet-32593518.pdf?src-supplier=Stackpole+Electronics; ComponentLink5URL: https://datasheet.octopart.com:443/KAL25FB10R0-Stackpole-Electronics-datasheet-17020207.pdf?src-supplier=Factory+Futures; ComponentLink5Description: https://datasheet.octopart.com:443/KAL25FB10R0-Stackpole-Electronics-datasheet-17020207.pdf?src-supplier=Factory+Futures; ComponentLink6URL: http://sigma.octopart.com:80/141158211/reach_statement/Stackpole-Electronics-KAL25FB10R0.pdf?src-supplier=Compliance+Statements; ComponentLink6Description: http://sigma.octopart.com:80/141158211/reach_statement/Stackpole-Electronics-KAL25FB10R0.pdf?src-supplier=Compliance+Statements; ComponentLink7URL: http://sigma.octopart.com:80/141158212/rohs_statement/Stackpole-Electronics-KAL25FB10R0.pdf?src-supplier=Compliance+Statements; ComponentLink7Description: http://sigma.octopart.com:80/141158212/rohs_statement/Stackpole-Electronics-KAL25FB10R0.pdf?src-supplier=Compliance+Statements
footprint Braking_Resistor
pins: 1, 2